# Altium schematic symbol library ICs_EFR.SchLib: 131 symbols (part 3 of 4)
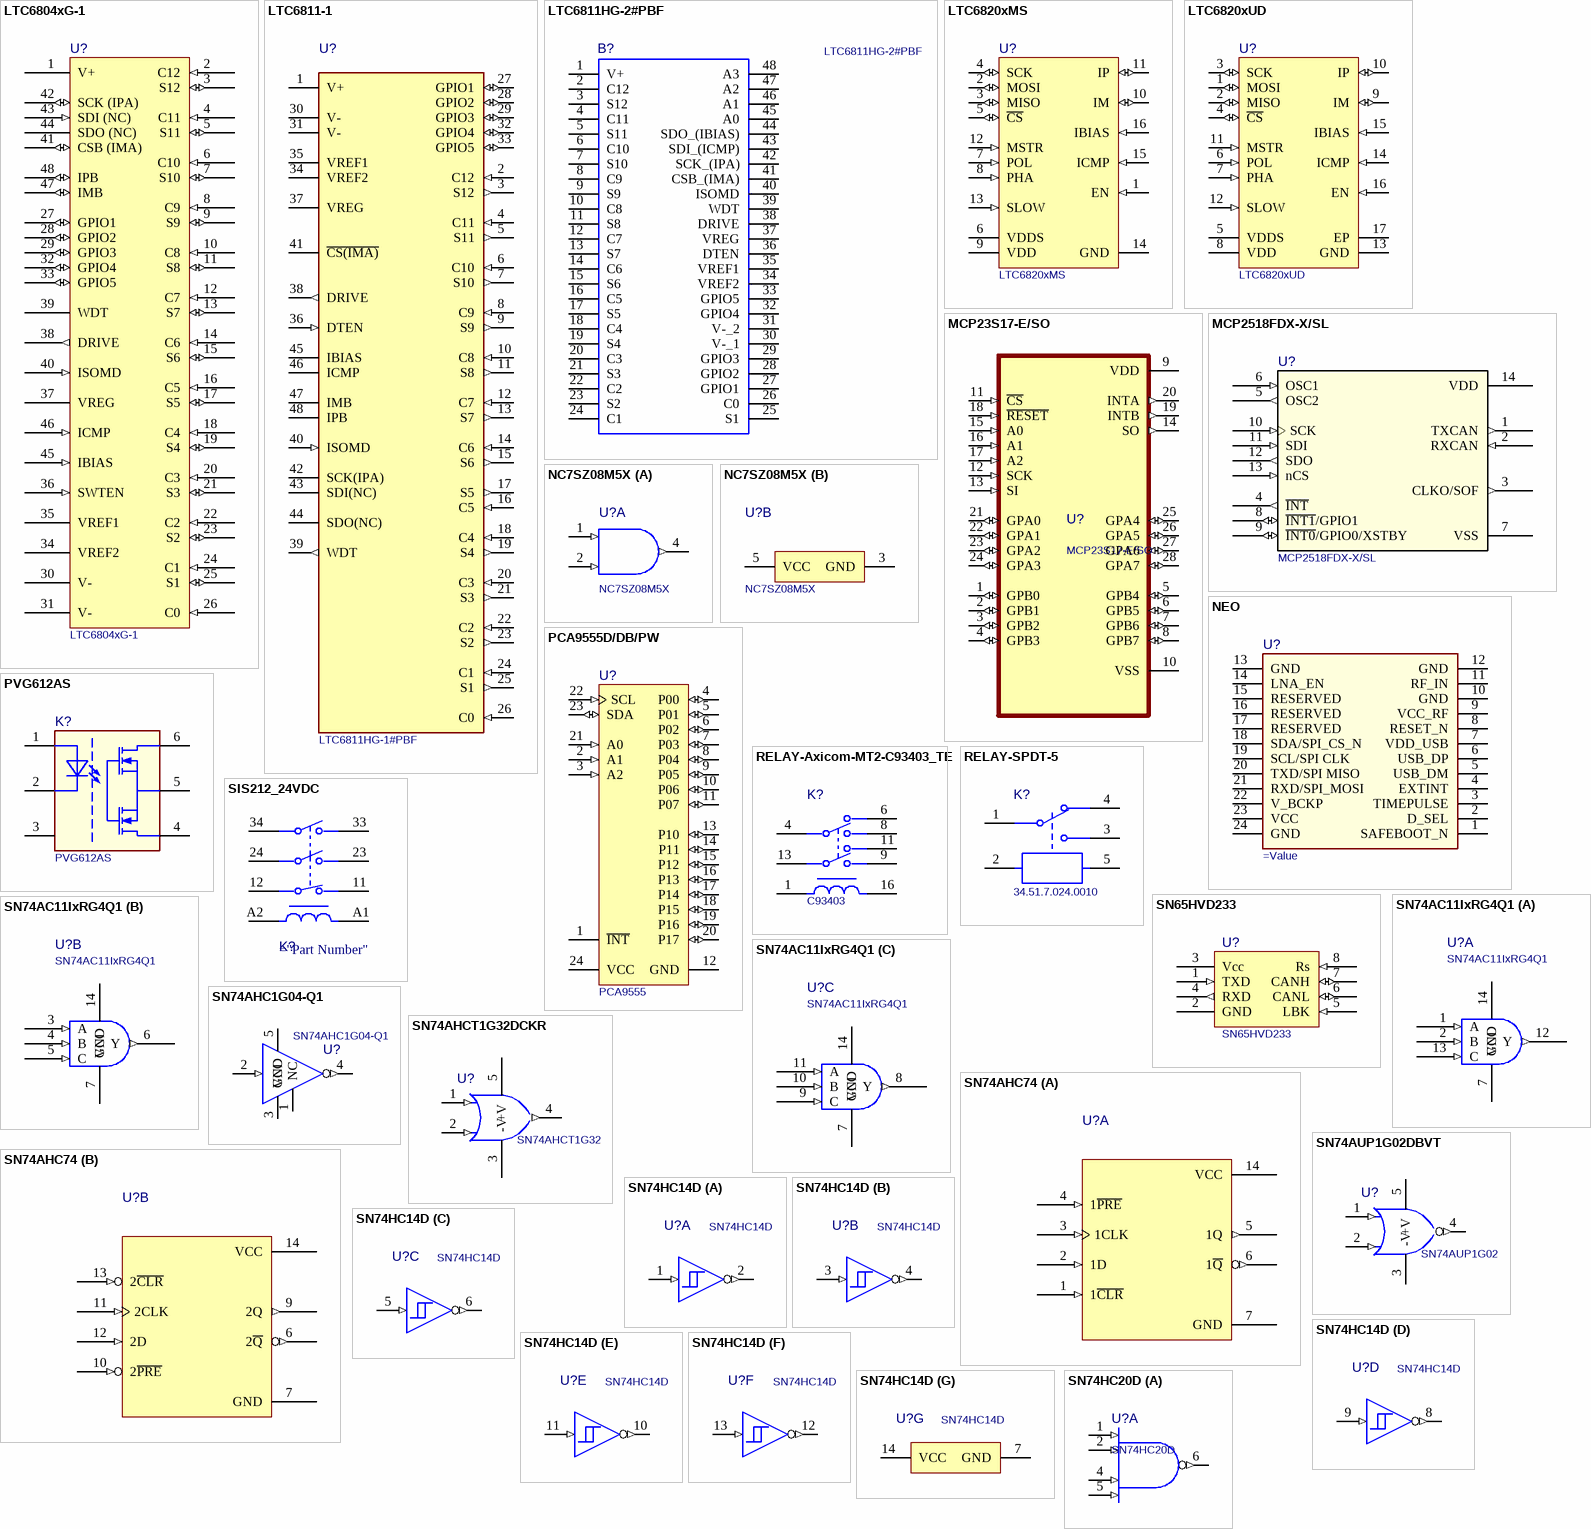
[diagram p10: symbols LTC6804xG-1 to SN74HC20D]

## LTC6820xMS
designator U?
IsoSPI Isolated Communication Interface, 2.7 to 5.5 V, -40 to 125 degC, 16-Pin MSOP (MS), Pb-Free; Manufacturer: Linear Technology; IO Supply Current: 1 uA Max.; IO Supply Voltage Range: 1.7 to 5.5 V; Receiver Input Resistance: 35 kOhm; VBIAS: 1.9 to 2.1 V; Supply Current, IDLE State: 2 uA; Mounting Technology: SMT; ComponentLink2URL: https://www.analog.com/media/en/technical-documentation/data-sheets/LTC6820.pdf; PackageVersion: Rev. A; PackageReference: MS-16; PackageDescription: 16-Pin Micro Small Outline Package, Body 4.039 x 3 mm, Pitch 0.5 mm; DatasheetVersion: Rev. A; Power Supply: 2.7 to 5.5 V; ComponentLink1Description: Manufacturer URL; Manufacturer P/N: LTC6820xMS; Temperature Range (degC): -40 to 125; ComponentLink1URL: https://www.analog.com/en/products/ltc6820.html; ComponentLink2Description: Datasheet; Supplier 1: Mouser; Supplier Part Number 1: 584-LTC6820IMS#PBF; Supplier 2: Mouser; Supplier Part Number 2: 584-LTC6820HMS#PBF
footprint MSOP16_M (LT-MS-16) (SOP, 16-Leads, Body 4.04x3.00mm, Pitch 0.50mm, IPC Low Density)
footprint MSOP16_N (LT-MS-16) (Footprint not found)
footprint MSOP16_L (LT-MS-16) (SOP, 16-Leads, Body 4.04x3.00mm, Pitch 0.50mm, IPC High Density)
pins: 1 EN (in) "Device Enable Input. If high, this pin forces the LTC6820 to stay enabled, overriding the internal IDLE mode function. If low, the LTC6820 will go into IDLE mode after the C\S\ pin has been high for 5.7ms (when MSTR pin is high) or after no signal on the IP/IM pins for 5.7ms (when MSTR pin is low). The LTC6820 will wake-up less than 8us after C\S\ falls (MSTR high) or after a signal is detected on IP/IM (MSTR low).", 2 MOSI (io) "SPI Master Out/Slave In Data. If connected on the master side of a SPI interface (MSTR pin high), this pin receives the data signal output from the master SPI controller. If connected on the slave side of the interface (MSTR pin low), this pin drives the data signal input to the slave SPI device. The output is open drain, so an external pull-up resistor to VDDS is required.", 3 MISO (io) "SPI Master Out/Slave In Data. If connected on themaster side of a SPI interface (MSTR pin high), this pin receives the data signal output from the master SPI controller. If connected on the slave side of the interface (MSTR pin low), this pin drives the data signal input to the slave SPI device. The output is open drain, so an external pull-up resistor to VDDS is required.", 4 SCK (io) "SPI Clock Input/Output. If connected on the master side of the interface (MSTR pin high), this pin receives the clock signal from the master SPI controller. This input should not be pulled above VDDS. If connected on the slave side of the interface (MSTR pin low), this pin outputs the clock signal to the slave device. The output driver is push-pull; no external pull-up resistor is needed.", 5 ~{CS} (io) "SPI Chip Select Input/Output. If connected on the masterside ofthe interface (MSTR pin high), this pin receivesthe chip select signal from the master SPI controller. This input should not be pulled above VDDS. Ifconnected on the slave side of the interface (MSTR pin low), this pin outputs the chip select signal to the slave device. The output driver is push-pull; no external pull-up resistor is needed.", 6 VDDS (power) "SPI Input/Output Power Supply Input.The output drivers for the SCK and C\S\ pins use the VDDS input as their positive power supply. The input threshold voltages of SCK, C\S\, MOSI, MISO and EN are determined by VDDS. May be tied to VDD or to a supply above or below VDD to level shift the SPI I/O. If separate from VDD, connect a bypass capacitor of at least 0.01 pF directly between VDDS amd GND", 7 POL (in) "SPI Clock Polarity Input. Tie to VDD or GND. See Operation section for details.", 8 PHA (in) "SPI Clock Phase Input. Tie to VDD orGND. See Operation section for details.", 9 VDD (power) "Device Power Supply Input. Connect a bypass capacitor of at least 0.01uF directly between VDD and GND.", 10 IM (io) "Isolated Interface Minus Input/Output.", 11 IP (io) "Isolated Interface Plus Input/Output.", 12 MSTR (in) "Serial Interface Master/Slave Selector Input. Tie this pin to VDD if the device is on the master side of the isolated interface. Tie this pin to GND if the device is on the slave side of the isolated interface", 13 SLOW (in) "Slow Interface Selection Input. For clock frequencies at or below 200kHz, or if slave devices cannot meet timing requirements, this pin should be tied to VDD. For clock frequencies above 200kHz, this pin should be tied to GND.", 14 GND (power) "Device Ground.", 15 ICMP (in) "Isolated Interface Comparator Voltage Threshold Set. Tie this pin to the resistor divider between IBIAS and GND to set the voltage threshold of the interface receiver comparators. The comparator thresholds are set to 1/2 the voltage on the ICMP pin.", 16 IBIAS (in) "Isolated Interface Current Bias. Tie IBIAS to GND through a resistor divider to set the interface output current level.When the device is enabled, this pin is approximately 2V. When transmitting pulses, the sink current on each of the IP and IM pins is set to 20 times the current sourced from pin IBIAS to GND. Limit the capacitance on the IBIAS pin to less than 50pF to maintain the stability of the feedback circuit regulating the IBIAS voltage."

## LTC6820xUD
designator U?
IsoSPI Isolated Communication Interface, 2.7 to 5.5 V, -40 to 125 degC, 16-Pin QFN (UD-16EPV-AA), Pb-Free; Manufacturer: Linear Technology; VBIAS: 1.9 to 2.1 V; IO Supply Current: 1 uA Max.; Receiver Input Resistance: 35 kOhm; IO Supply Voltage Range: 1.7 to 5.5 V; Supply Current, IDLE State: 2 uA; ComponentLink2Description: Datasheet; ComponentLink1URL: https://www.analog.com/en/products/ltc6820.html; Manufacturer P/N: LTC6820xUD; ComponentLink2URL: https://www.analog.com/media/en/technical-documentation/data-sheets/LTC6820.pdf; DatasheetVersion: Rev. A; ComponentLink1Description: Manufacturer; PackageReference: UD-16EPV-AA; PackageVersion: Rev. A; Mounting Technology: SMT; Temperature Range (degC): -40 to 125; PackageDescription: 16-Pin Quad Flat No-lead Package, Body 3 x 3 mm, Pitch 0.5 mm; Power Supply: 2.7 to 5.5 V; Supplier 1: Mouser; Supplier Part Number 1: 584-LTC6820IUD#PBF; Supplier 2: Mouser; Supplier Part Number 2: 584-LTC6820HUD#PBF
footprint QFN16_L (LT UD-16) (QFN, 16-Leads, Body 3.1x3.1mm, Pitch 0.5mm, Thermal Pad 1.65x1.65mm, IPC High Density)
footprint QFN16_N (LT UD-16) (QFN, 16-Leads, Body 3.1x3.1mm, Pitch 0.5mm, Thermal Pad 1.65x1.65mm, IPC Medium Density)
footprint QFN16_M (LT UD-16) (QFN, 16-Leads, Body 3.1x3.1mm, Pitch 0.5mm, Thermal Pad 1.65x1.65mm, IPC Low Density)
pins: 1 MOSI (io) "SPI Master Out/Slave In Data. If connected on the master side of a SPI interface (MSTR pin high), this pin receives the data signal output from the master SPI controller. If connected on the slave side of the interface (MSTR pin low), this pin drives the data signal input to the slave SPI device. The output is open drain, so an external pull-up resistor to VDDS is required.", 2 MISO (io) "SPI Master Out/Slave In Data. If connected on themaster side of a SPI interface (MSTR pin high), this pin receives the data signal output from the master SPI controller. If connected on the slave side of the interface (MSTR pin low), this pin drives the data signal input to the slave SPI device. The output is open drain, so an external pull-up resistor to VDDS is required.", 3 SCK (io) "SPI Clock Input/Output. If connected on the master side of the interface (MSTR pin high), this pin receives the clock signal from the master SPI controller. This input should not be pulled above VDDS. If connected on the slave side of the interface (MSTR pin low), this pin outputs the clock signal to the slave device. The output driver is push-pull; no external pull-up resistor is needed.", 4 ~{CS} (io) "SPI Chip Select Input/Output. If connected on the masterside ofthe interface (MSTR pin high), this pin receivesthe chip select signal from the master SPI controller. This input should not be pulled above VDDS. Ifconnected on the slave side of the interface (MSTR pin low), this pin outputs the chip select signal to the slave device. The output driver is push-pull; no external pull-up resistor is needed.", 5 VDDS (power) "SPI Input/Output Power Supply Input.The output drivers for the SCK and C\S\ pins use the VDDS input as their positive power supply. The input threshold voltages of SCK, C\S\, MOSI, MISO and EN are determined by VDDS. May be tied to VDD or to a supply above or below VDD to level shift the SPI I/O. If separate from VDD, connect a bypass capacitor of at least 0.01 pF directly between VDDS amd GND", 6 POL (in) "SPI Clock Polarity Input. Tie to VDD or GND. See Operation section for details.", 7 PHA (in) "SPI Clock Phase Input. Tie to VDD orGND. See Operation section for details.", 8 VDD (power) "Device Power Supply Input. Connect a bypass capacitor of at least 0.01uF directly between VDD and GND.", 9 IM (io) "Isolated Interface Minus Input/Output.", 10 IP (io) "Isolated Interface Plus Input/Output.", 11 MSTR (in) "Serial Interface Master/Slave Selector Input. Tie this pin to VDD if the device is on the master side of the isolated interface. Tie this pin to GND if the device is on the slave side of the isolated interface", 12 SLOW (in) "Slow Interface Selection Input. For clock frequencies at or below 200kHz, or if slave devices cannot meet timing requirements, this pin should be tied to VDD. For clock frequencies above 200kHz, this pin should be tied to GND.", 13 GND (power) "Device Ground.", 14 ICMP (in) "Isolated Interface Comparator Voltage Threshold Set. Tie this pin to the resistor divider between IBIAS and GND to set the voltage threshold of the interface receiver comparators. The comparator thresholds are set to 1/2 the voltage on the ICMP pin.", 15 IBIAS (in) "Isolated Interface Current Bias. Tie IBIAS to GND through a resistor divider to set the interface output current level.When the device is enabled, this pin is approximately 2V. When transmitting pulses, the sink current on each of the IP and IM pins is set to 20 times the current sourced from pin IBIAS to GND. Limit the capacitance on the IBIAS pin to less than 50pF to maintain the stability of the feedback circuit regulating the IBIAS voltage.", 16 EN (in) "Device Enable Input. If high, this pin forces the LTC6820 to stay enabled, overriding the internal IDLE mode function. If low, the LTC6820 will go into IDLE mode after the C\S\ pin has been high for 5.7ms (when MSTR pin is high) or after no signal on the IP/IM pins for 5.7ms (when MSTR pin is low). The LTC6820 will wake-up less than 8us after C\S\ falls (MSTR high) or after a signal is detected on IP/IM (MSTR low).", 17 EP (power) "Exposed pad may be left open or connected to device GND."

## MCP23S17-E/SO
designator U?
I/O Expander 16 SPI 10MHz 28-SOIC; Manufacturer: Microchip; Manufacturer P/N: MCP23S17-E/SO; Package: SOIC-28 Microchip; Mounting Technology: SMT; Supplier 1: Mouser; ComponentLink1Description: Website; ComponentLink1URL: https://www.microchip.com/en-us/product/mcp23s17; ComponentLink2Description: Datasheet; ComponentLink2URL: https://ww1.microchip.com/downloads/aemDocuments/documents/APID/ProductDocuments/DataSheets/MCP23017-Data-Sheet-DS20001952.pdf; ComponentLink3Description: SnapEDA; ComponentLink3URL: https://www.snapeda.com/parts/MCP23S17-E/SO/Microchip/view-part/48911/?ref=snap; Supplier Part Number 1: 579-MCP23S17-E/SO; Supplier 2: Mouser; Supplier Part Number 2: 579-MCP23S17T-E/SO
footprint SOIC127P1030X265-28N
pins: 1 GPB0 (io), 2 GPB1 (io), 3 GPB2 (io), 4 GPB3 (io), 5 GPB4 (io), 6 GPB5 (io), 7 GPB6 (io), 8 GPB7 (io), 9 VDD (power), 10 VSS (power), 11 ~{CS} (in), 12 SCK (in), 13 SI (in), 14 SO (out), 15 A0 (in), 16 A1 (in), 17 A2 (in), 18 ~{RESET} (in), 19 INTB (out), 20 INTA (out), 21 GPA0 (io), 22 GPA1 (io), 23 GPA2 (io), 24 GPA3 (io), 25 GPA4 (io), 26 GPA5 (io), 27 GPA6 (io), 28 GPA7 (io)

## MCP2518FDX-X/SL
designator U?
External CAN FD Controller with SPI Interface; Manufacturer P/N: MCP2518FDT-E/SL; Manufacturer: Microchip; Mounting Technology: SMT; Supplier 1: Mouser; ComponentLink1Description: Manufacturer; ComponentLink1URL: https://www.microchip.com/wwwproducts/en/MCP2518FD; ComponentLink2Description: Datasheet; ComponentLink2URL: https://ww1.microchip.com/downloads/en/DeviceDoc/External-CAN-FD-Controller-with-SPI-Interface-DS20006027B.pdf; Supplier Part Number 1: 579-MCP2518FDT-E/SL
footprint SOIC-14_L (D14) (SOIC, 14-Leads, Body 8.75x4mm, Pitch 1.27mm, IPC High Density)
footprint SOIC-14_N (D14) (SOIC, 14-Leads, Body 8.75x4mm, Pitch 1.27mm, IPC Medium Density)
footprint SOIC-14_M (D14) (SOIC, 14-Leads, Body 8.75x4mm, Pitch 1.27mm, IPC Low Density)
pins: 1 TXCAN (out) "Transmit output to CAN FD transceiver", 2 RXCAN (in) "Receive input from CAN FD transceiver", 3 CLKO/SOF (out) "Clock output/Start of Frame output", 4 ~{INT} (out) "Interrupt output (active low)", 5 OSC2 (out) "External oscillator output", 6 OSC1 (in) "External oscillator input", 7 VSS (power) "Ground", 8 ~{INT1}/GPIO1 (io) "RX Interrupt output (active low)/GPIO", 9 ~{INT0}/GPIO0/XSTBY (io) "TX Interrupt output (active low)/GPIO/Transceiver Standby output", 10 SCK (in) "SPI clock input", 11 SDI (in) "SPI data input", 12 SDO (out) "SPI data output", 13 nCS (in) "SPI chip select input", 14 VDD (power) "Positive Supply"

## NC7SZ08M5X
designator U?
TinyLogic(R) UHS 2-Input AND Gate, 1.65 to 5.5 V, -40 to 85 degC, 5-Pin SOT23, RoHS, Tape and Reel; Manufacturer P/N: NC7SZ08M5X_NL; Manufacturer: FairchildSemiconductor; Logic Family: NC7SV; Package Version: 08/2015; Low Level Output Current: 32mA; Number of Gates: 1Gate; Number of Input Lines: 2Input; Propagation Delay Time: 5.2ns; Unit Weight: 0.001058oz; High Level Output Current: -32mA; Supply Voltage - Min: 1.65V; Supply Voltage - Max: 5.5V; Number of Output Lines: 1Output; Maximum Operating Temperature: +85C; Package Reference: SOT23-5; Package URL: https://www.fairchildsemi.com/package-drawings/MA/MA05B.pdf; Package Description: 5-Pin Small Outline Transistor, Body 2.9 x 1.6 mm, Pitch 0.95 mm; Datasheet URL: https://www.fairchildsemi.com/datasheets/NC/NC7SZ08.pdf; Manufacturer URL: https://www.fairchildsemi.com/; Product Category: LogicGates; Series: TinyLogic; Mounting Technology: SMT; RoHS: True; Packaging: Reel; Mounting Style: SMD/SMT; Logic Type: 2-InputAND; Minimum Operating Temperature: -40C; <PCN>: http://www.mouser.com/PCN/3.26.10LTBDFairchild.pdf; Brand: FairchildSemiconductor; Product: Single-FunctionGate; Package / Case: SOT-23; Datasheet Version: Rev. 1.0.3, 09/2009; Logic Function: AND; ComponentLink1Description: Datasheet; ComponentLink1URL: https://www.onsemi.com/pub/Collateral/NC7SZ08-D.PDF
footprint SOT23-5_L (DBV5) (DBV)
footprint SOT23-5_N (DBV5)
footprint SOT23-5_M (DBV5)
part A pins: 1 A (in), 2 B (in), 4 Y (out)
part B pins: 3 GND (power), 5 VCC (power)

## NEO
designator U?
u-blox NEO GNSS module; Part Description: u-blox GNSS module; Manufacturer P/N: NEO-M8; Manufacturer: u-blox; ComponentLink1Description: Hersteller; ComponentLink1URL: https://www.u-blox.com/en/product/neo-m8-series; ComponentLink2Description: Datenblatt; ComponentLink2URL: https://www.u-blox.com/sites/default/files/NEO-M8-FW3_DataSheet_UBX-15031086.pdf; Mounting Technology: SMT
footprint NEO (u-blox NEO GNSS module)
pins: 1 SAFEBOOT_N, 2 D_SEL, 3 TIMEPULSE, 4 EXTINT, 5 USB_DM, 6 USB_DP, 7 VDD_USB, 8 RESET_N, 9 VCC_RF, 10 GND, 11 RF_IN, 12 GND, 13 GND, 14 LNA_EN, 15 RESERVED, 16 RESERVED, 17 RESERVED, 18 SDA/SPI_CS_N, 19 SCL/SPI CLK, 20 TXD/SPI MISO, 21 RXD/SPI_MOSI, 22 V_BCKP, 23 VCC, 24 GND

## PCA9555D/DB/PW
designator U?, comment PCA9555
Remote 16-Bit I2C and SMBus I/O Expander with Interrupt Output and Configuration Registers, 2.3 to 5.5 V, -40 to 85 degC, 24-pin SOIC (DW), Green (RoHS & no Sb/Br); Manufacturer: Texas Instruments; Manufacturer P/N: PCA9555DWR; No. of Outputs: 2; fSCLK(Max)(MHz): 400; 5V Tolerant I/O: Yes; VCC(Min)(V): 2.3; VCC(Max)(V): 5.5; # of I/Os: 16; SubFamily: I2C IO Expander; I2C Address: 0100 xxx; Eco-Plan: Green (RoHS & no Sb/Br); DatasheetVersion: SCPS131E; ComponentLink2Description: Package Specification; Mounting Technology: SMT; PackageVersion: revG, Jan-2011; Push-Pull I/O Type: Yes; Configuration Registers: Yes; PackageReference: DW0024A; Max Frequency(kHz): 400; ComponentLink1Description: Datasheet; ComponentLink2URL: http://www.ti.com/litv/pdf/mpds174a; Vcc range(V): 2.3 to 5.5; ComponentLink1URL: http://www.ti.com/general/docs/lit/getliterature.tsp?genericPartNumber=PCA9555&fileType=pdf; Interrupt Output: Yes; PackageDescription: 24-Pin Plastic Small Outline Integrated Circuit, 15.4 x 7.5 mm, Pitch 1.27 mm Pitch; Code_JEDEC: MS-013AD; ComponentLink3Description: Manufacturer; ComponentLink3URL: https://www.nxp.com/products/interfaces/ic-spi-serial-interface-devices/ic-general-purpose-i-o/16-bit-i2c-bus-and-smbus-i-o-port-with-interrupt:PCA9555
footprint SOIC-24_N (DW24) (SOIC, 24-Leads, Body 15.6x7.6mm, Pitch 1.27mm, IPC Medium Density)
footprint SOIC-24_L (DW24) (SOIC, 24-Leads, Body 15.6x7.6mm, Pitch 1.27mm, IPC High Density)
footprint SOIC-24_M (DW24) (SOIC, 24-Leads, Body 15.6x7.6mm, Pitch 1.27mm, IPC Low Density)
footprint TSSOP-24_N (PW24)
footprint TSSOP-24_M (PW24)
footprint TSSOP-24_L (PW24)
footprint SSOP-24_L (DBQ24)
footprint SSOP-24_L (DB24)
footprint SSOP-24_N (DBQ24)
footprint SSOP-24_M (DBQ24)
footprint SSOP-24_M (DB24)
footprint SSOP-24_N (DB24)
footprint TVSOP-24_N (DGV24)
footprint TVSOP-24_M (DGV24)
footprint TVSOP-24_L (DGV24)
pins: 1 ~{INT} (oc) "Interrupt output. Connect to VCC through a pullup resistor.", 2 A1 (in) "Address input 1. Connect directly to VCC or ground.", 3 A2 (in) "Address input 2. Connect directly to VCC or ground.", 4 P00 (io) "P-port input/output. Push-pull design structure.", 5 P01 (io) "P-port input/output. Push-pull design structure.", 6 P02 (io) "P-port input/output. Push-pull design structure.", 7 P03 (io) "P-port input/output. Push-pull design structure.", 8 P04 (io) "P-port input/output. Push-pull design structure.", 9 P05 (io) "P-port input/output. Push-pull design structure.", 10 P06 (io) "P-port input/output. Push-pull design structure.", 11 P07 (io) "P-port input/output. Push-pull design structure.", 12 GND (power) "Ground", 13 P10 (io) "P-port input/output. Push-pull design structure.", 14 P11 (io) "P-port input/output. Push-pull design structure.", 15 P12 (io) "P-port input/output. Push-pull design structure.", 16 P13 (io) "P-port input/output. Push-pull design structure.", 17 P14 (io) "P-port input/output. Push-pull design structure.", 18 P15 (io) "P-port input/output. Push-pull design structure.", 19 P16 (io) "P-port input/output. Push-pull design structure.", 20 P17 (io) "P-port input/output. Push-pull design structure.", 21 A0 (in) "Address input 0. Connect directly to VCC or ground.", 22 SCL (in) "Serial clock bus. Connect to VCC through a pullup resistor.", 23 SDA (io) "Serial data bus. Connect to VCC through a pullup resistor.", 24 VCC (power) "Supply voltage"

## PVG612AS
designator K?
HEXFET Power MOSFET Photovoltaic Relay, Single-Pole, Normally-Open; Manufacturer: Infineon Technologies; Manufacturer P/N: PVG612AS; PackageReference: SMT6; Mounting Technology: SMT; Supplier 1: Mouser; Supplier Part Number 1: 942-PVG612AS-TPBF; Supplier 2: Mouser; Supplier Part Number 2: 942-PVG612ASPBF
footprint SMT-6 (SOIC,2.54mm pitch;6 pin,6.35mm W X 8.38mm L X 4.43mm H body)
pins: 1 A "Anode", 2 C "Cathode", 3 NC "Not Connected", 4 D2 "Drain 2", 5 S "Source", 6 D1 "Drain 1"

## RELAY-Axicom-MT2-C93403_TE
designator K?, comment C93403
Electromechanical Relay DPDT 2A 24VDC 3.872KOhm THT; Manufacturer P/N: 1-1462000-3; Manufacturer: TE Connectivity; Number Of Contacts: 2; Coil Resistance: 3872Ω; Coil Power: 150mW; Coil Voltage: 24V; Coil Type: Non-Latching; Standoff Height: 0.2mm; Octopart: https://octopart.com/1-1462000-3-te+connectivity-40936454; Package: 1-1462000-3; Device Class L1: Electromechanical; Ambient Temperature Range Low: -55°C; ComponentLink2Description: Manufacturer; Digikey Description: RELAY TELECOM DPDT 2A 24VDC; Device Class L3: Signal Relays; Lead Free: Yes; Throw Configuration: DPDT; Category: Relay; Height (mm): 10.9; Ambient Temperature Range High: +85°C; Automotive: No; RoHS: TRUE; Device Class L2: Relays; Current Rating: 2A; ComponentLink2URL: https://www.te.com/usa-en/product-1-1462000-3.html?te_bu=Cor&te_type=other&te_campaign=oct_glo_cor-oct-global-oth-prtnr-fy19-oct-octo-buy-bom_sma-298_2&elqCampaignId=35216; Switching Current: 2A; ComponentLink3Description: Datasheet; ComponentLink3URL: https://www.te.com/commerce/DocumentDelivery/DDEController?Action=showdoc&DocId=Data+Sheet%7FMT2_RELAY%7F1019%7Fpdf%7FEnglish%7FENG_DS_MT2_RELAY_1019.pdf%7F1-1462000-3; Supplier 1: Mouser; Supplier 2: Digi-Key; Supplier Part Number 2: PB1126-ND; Supplier Part Number 1: 655-C93403; Mounting Technology: THT
footprint TE-MT2-Relay
pins: 1, 4, 6, 8, 9, 11, 13, 16

## RELAY-SPDT-5
designator K?, comment 34.51.7.024.0010
General Purpose Relay, 24 V, 6 A, -40 to 85 degC, 5-Pin THD, RoHS; Manufacturer: Finder; Maximum Switching Voltage AC: 400Vac; Maximum Switching Current AC: 6A; Coil Power: 170mW; Maximum Switching Power AC: 1.5kVA; Life: 60000(Electrical)cycles,10000000(DCMechanical)cycles; Contact Configuration: SPDT; Coil Voltage: 24Vdc; Coil Resistance: 3.35kΩ; Isolation Coil To Contact: 6kV; Dimensions: 28x5x15mm; Mounting Technology: PCB; Contact Material: SilverNickel; Datasheet Version: Dec-15; Height: 15mm; Terminal Type: PCBPin; Manufacturer URL: http://www.findernet.com/en-hk; Depth: 5mm; Package Reference: 34.51-5; Operating Temperature Range: -40→+85degC; Minimum Operating Temperature: -40degC; Datasheet URL: http://datasheet.octopart.com/34.51.7.024.0010-Finder-datasheet-61011079.pdf; Package Description: 5-Pin Through Hole Device, Body 28 x 5 mm; Maximum Operating Temperature: +85degC; Length: 28mm; ComponentLink1Description: Datasheet; ComponentLink1URL: https://gfinder.findernet.com/public/attachments/34/DE/S34DE.pdf; ComponentLink2Description: Manufacturer; ComponentLink2URL: https://www.findernet.com/de/germany/products/families/18/series/34; Manufacturer P/N: 34.51.7.024.0010
footprint Relay  34.51 ultra-slim
pins: 1, 2, 3, 4, 5

## SIS212_24VDC
designator K?  (value not drawn)
footprint ELESTA_SIS212_24VDC_0
pins: 11, 12, 23, 24, 33, 34, A1, A2

## SN65HVD233
designator U?
3.3V CAN Transceiver with Loopback Mode; Manufacturer: Texas Instruments; Manufacturer P/N: SN65HVD233D; ComponentLink1Description: Datasheet; ComponentLink1URL: http://www.ti.com/lit/ds/symlink/sn65hvd233.pdf; ComponentLink2Description: Manufacturer; ComponentLink2URL: http://www.ti.com/product/SN65HVD233; Resistance: *; Value: *; Tolerance: *; Type: Interface; Capacitance: *; Current (A): *; Power (W): *; Voltage (V): *; Mounting Technology: SMT
footprint SOIC-08
pins: 1 TXD (in) "CAN transmit data input (LOW for dominantand HIGH for recessive bus states), also called TXD, driver input", 2 GND (power), 3 Vcc (power) "Transceiver 3.3-V supply voltage", 4 RXD (out), 5 LBK (in) "Loopbackmode input pin", 6 CANL (io) "Low-level CAN bus line", 7 CANH (io) "High-level CAN bus line", 8 Rs (in) "Mode select pin: strong pull down to GND = high-speed mode, strong pull up to VCC = low-power mode, 10-kΩ to 100-kΩ pull down to GND = slope control mode"

## SN74AC11IxRG4Q1
designator U?
Automotive Catalog Triple 3-Input Positive-AND Gates; Manufacturer: Texas Instruments; Part_Number: SN74AC11-Q1; Manufacturer P/N: SN74AC11IPWRG4Q1; INDUSTRY_STD_PKG_TYPE: TSSOP; Pin Number: 14; FAMILY_NAME: AND GATE; Package: TSSOP; Copyright: Copyright (C) 2018 Accelerated Designs. All rights reserved; RefDes: RefDes; Type: DEV; ComponentLink1Description: Datasheet; ComponentLink1URL: https://www.ti.com/lit/gpn/SN74AC11-Q1; ComponentLink2Description: Manufacturer; ComponentLink2URL: https://www.ti.com/product/SN74AC11-Q1; Mounting Technology: SMT
footprint TSSOP-14_L (PW14) (TSSOP, 14-Leads, Body 5.10x4.5mm, Pitch 0.65mm, IPC High Density)
footprint TSSOP-14_N (PW14) (TSSOP, 14-Leads, Body 5.10x4.5mm, Pitch 0.65mm, IPC Medium Density)
footprint TSSOP-14_M (PW14) (TSSOP, 14-Leads, Body 5.10x4.5mm, Pitch 0.65mm, IPC Low Density)
footprint SOIC-14_L (D14) (SOIC, 14-Leads, Body 8.75x4mm, Pitch 1.27mm, IPC High Density)
footprint SOIC-14_N (D14) (SOIC, 14-Leads, Body 8.75x4mm, Pitch 1.27mm, IPC Medium Density)
footprint SOIC-14_M (D14) (SOIC, 14-Leads, Body 8.75x4mm, Pitch 1.27mm, IPC Low Density)
part A pins: 1 A (in), 2 B (in), 7 GND (power), 12 Y (out), 13 C (in), 14 VCC (power)
part B pins: 3 A (in), 4 B (in), 5 C (in), 6 Y (out), 7 GND (power), 14 VCC (power)
part C pins: 7 GND (power), 8 Y (out), 9 C (in), 10 B (in), 11 A (in), 14 VCC (power)

## SN74AHC1G04-Q1
designator U?
Automotive Catalog Single Inverter Gate; Manufacturer: Texas Instruments; Output Drive (IOL/IOH)(Max)(mA): 32/-32; Schmitt Trigger: No; Logic: Inverting; Bits(#): 1; tpd @ Nom Voltage(Max)(ns): 11,6.5,5.5,5; Voltage(Nom)(V): 1.8,2.5,3.3,5; Output Type: Push-Pull; VCC(Min)(V): 1.65; ICC @ Nom Voltage(Max)(mA): 0.01; Input Type: CMOS; F @ Nom Voltage(Max)(Mhz): 150; VCC(Max)(V): 5.5; Sub-Family: Inverting Buffer/Driver; Technology Family: AHC; Rating: Automotive; PackageReference: *; Operating Temperature Range(C): -40 to 125,-40 to 85; Generic Part Number: SN74AHC1G04-Q1; 3-State Output: No; ComponentLink1Description: Datasheet; ComponentLink1URL: https://www.ti.com/lit/gpn/sn74ahc1g04-q1; ComponentLink2Description: Manufacturer; ComponentLink2URL: https://www.ti.com/product/SN74AHC1G04-Q1; Manufacturer P/N: SN74AHC1G04-Q1; Mounting Technology: SMT
footprint SC70-5_L (DCK5)
footprint SC70-5_M (DCK5)
footprint SC70-5_N (DCK5)
footprint SOT23-5_L (DBV5) (DBV)
footprint SOT23-5_N (DBV5)
footprint SOT23-5_M (DBV5)
pins: 1 NC, 2 A (in) "Input A", 3 GND, 4 Y (out) "Output Y", 5 VCC

## SN74AHC74
designator U?
Schmitt-Trigger Input Dual D-Type Positive-Edge- / Triggered Flip-Flops With Clear and Preset; Manufacturer P/N: SN74AHC74; Manufacturer: Texas Instruments; Value: *R; Tolerance: *%; Power (W): *; Current (A): *; Type: *; Voltage (V): *; Capacitance: *; Resistance: *R; ComponentLink1Description: Datasheet; ComponentLink1URL: https://www.ti.com/lit/gpn/sn74ahc74; ComponentLink2Description: Datasheet (Q1); ComponentLink2URL: https://www.ti.com/lit/gpn/sn74ahc74q-q1; ComponentLink3Description: Website; ComponentLink3URL: https://www.ti.com/product/SN74AHC74; ComponentLink4Description: Website (Q1); ComponentLink4URL: https://www.ti.com/product/SN74AHC74Q-Q1; Mounting Technology: SMT
footprint SOIC-14_L (D14) (SOIC, 14-Leads, Body 8.75x4mm, Pitch 1.27mm, IPC High Density)
footprint SOIC-14_N (D14) (SOIC, 14-Leads, Body 8.75x4mm, Pitch 1.27mm, IPC Medium Density)
footprint SOIC-14_M (D14) (SOIC, 14-Leads, Body 8.75x4mm, Pitch 1.27mm, IPC Low Density)
footprint SOP-14_L (NS14)
footprint SOP-14_N (NS14)
footprint SOP-14_M (NS14)
footprint PDIP-14 (N14)
footprint SSOP-14_L (DB14)
footprint SSOP-14_N (DB14)
footprint SSOP-14_M (DB14)
footprint TSSOP-14_L (PW14) (TSSOP, 14-Leads, Body 5.10x4.5mm, Pitch 0.65mm, IPC High Density)
footprint TSSOP-14_N (PW14) (TSSOP, 14-Leads, Body 5.10x4.5mm, Pitch 0.65mm, IPC Medium Density)
footprint TSSOP-14_M (PW14) (TSSOP, 14-Leads, Body 5.10x4.5mm, Pitch 0.65mm, IPC Low Density)
footprint TVSOP-14_L (DGV14)
footprint TVSOP-14_N (DGV14)
footprint TVSOP-14_M (DGV14)
part A pins: 1 1~{CLR} (in) "Clear for channel 1, active low", 2 1D (in) "Data for channel 1", 3 1CLK (in) "Clock for channel 1, rising edge triggered", 4 1~{PRE} (in) "Preset for channel 1, active low", 5 1Q (out) "Output for channel 1", 6 1~{Q} (out) "Inverted output for channel 1", 7 GND (power) "Ground", 14 VCC (power) "Positive Supply"
part B pins: 6 2~{Q} (out) "Inverted output for channel 2", 7 GND (power) "Ground", 9 2Q (out) "Output for channel 2", 10 2~{PRE} (in) "Preset for channel 2, active low", 11 2CLK (in) "Clock for channel 2, rising edge triggered", 12 2D (in) "Data for channel 2", 13 2~{CLR} (in) "Clear for channel 2, active low", 14 VCC (power) "Positive Supply"

## SN74AHCT1G32DCKR
designator U?, comment SN74AHCT1G32
Single 2-Input Positive-OR Gate, DCK0005A, LARGE T&R; Manufacturer: Texas Instruments; Logic: True; Output Drive (IOL/IOH)(Max)(mA): 8/-8; VCC(Min)(V): 2; Input Type: CMOS; ICC @ Nom Voltage(Max)(mA): 0.01; tpd @ Nom Voltage(Max)(ns): 8; Bits(#): 1; Voltage(Nom)(V): 5; VCC(Max)(V): 5.5; Technology Family: AHCT; Rating: Catalog; Sub-Family: OR Gate; Gate Type: OR; F @ Nom Voltage(Max)(Mhz): 75; 3-State Output: No; PackageReference: DCK0005A; Output Type: CMOS; DatasheetVersion: SCLS320O; Operating Temperature Range(C): -40 to 125; Manufacturer P/N: SN74AHCT1G32; Schmitt Trigger: No; ComponentLink1Description: Manufacturer; ComponentLink1URL: https://www.ti.com/product/SN74AHCT1G32; ComponentLink2Description: Datenblatt; ComponentLink2URL: http://www.ti.com/lit/ds/symlink/sn74ahct1g32.pdf; Mounting Technology: SMT
footprint SOT23-5_N (DBV5)
footprint SOT23-5_L (DBV5) (DBV)
footprint SOT23-5_M (DBV5)
footprint SC70-5_L (DCK5)
footprint SC70-5_M (DCK5)
footprint SC70-5_N (DCK5)
footprint SOT-5X3-5_L (DRL5)
footprint SOT-5X3-5_M (DRL5)
footprint SOT-5X3-5_N (DRL5)
pins: 1 A (in) "Input A", 2 B (in) "Input B", 3 -V (power) "Ground Pin", 4 Y (out) "Output Y", 5 +V (power) "Power Pin"

## SN74AUP1G02DBVT
designator U?, comment SN74AUP1G02
Low-Power Single 2-Input Positive-NOR Gate, DBV0005A, SMALL T&R; Manufacturer: Texas Instruments; tpd @ Nom Voltage(Max)(ns): 34.6,21.1,14.4,11.2,7.8,6.4; 3-State Output: No; Output Drive (IOL/IOH)(Max)(mA): 20/-20; F @ Nom Voltage(Max)(Mhz): 100; Gate Type: NOR; Output Type: CMOS; ICC @ Nom Voltage(Max)(mA): 0.0009; Technology Family: AUP; VCC(Min)(V): 0.8; Voltage(Nom)(V): 0.8,1.2,1.5,1.8,2.5,3.3; Bits(#): 1; VCC(Max)(V): 3.6; Rating: Catalog; Logic: True; Manufacturer P/N: SN74AUP1G02; PackageReference: DBV0005A; Input Type: CMOS; Operating Temperature Range(C): -40 to 85; Sub-Family: NOR Gate; DatasheetVersion: SCES568H; Schmitt Trigger: No; ComponentLink1Description: Hersteller; ComponentLink1URL: https://eu.mouser.com/ProductDetail/Texas-Instruments/SN74AUP1G02DBVT?qs=iO7mgM19OaaDEIgF9iXRpA==; ComponentLink2Description: Datenblatt; ComponentLink2URL: http://www.ti.com/lit/ds/symlink/sn74aup1g02.pdf; Mounting Technology: SMT
footprint SOT23-5_L (DBV5) (DBV)
footprint SOT23-5_M (DBV5)
footprint SOT23-5_N (DBV5)
footprint SC70-5_M (DCK5)
footprint SC70-5_N (DCK5)
footprint SC70-5_L (DCK5)
footprint SOT-5X3-5_L (DRL5)
footprint SOT-5X3-5_N (DRL5)
footprint SOT-5X3-5_M (DRL5)
pins: 1 A (in) "Input A", 2 B (in) "Input B", 3 -V (power) "Ground Pin", 4 Y (out) "Output Y", 5 +V (power) "Power Pin"

## SN74HC14D
designator U?
Hex Schmitt-Trigger Inverters, D0014A, TUBE; Manufacturer: Texas Instruments; Input Type: CMOS; Rating: Catalog; Voltage(Nom)(V): 5; Schmitt Trigger: Yes; ICC @ Nom Voltage(Max)(mA): 0.02; tpd @ Nom Voltage(Max)(ns): 31; F @ Nom Voltage(Max)(Mhz): 20; Output Drive (IOL/IOH)(Max)(mA): -4/4; VCC(Max)(V): 6; Technology Family: HC; VCC(Min)(V): 2; Manufacturer P/N: SN74HC14; Operating Temperature Range(C): -40 to 85; PackageReference: D0014A; DatasheetVersion: SCLS085G; Code_JEDEC: MS-012; Output Type: CMOS; Bits(#): 6; ComponentLink1Description: Datasheet; ComponentLink1URL: http://www.ti.com/lit/ds/symlink/sn74hc14.pdf; ComponentLink2Description: Mouser-Link; ComponentLink2URL: https://www.mouser.de/ProductDetail/Texas-Instruments/SN74HC14D?qs=sGAEpiMZZMutVWjHE%2FYQwyQkZBn%2FF0sRNwEOpHHn7u4%3D; Mounting Technology: SMT
footprint SOIC-14_L (D14) (SOIC, 14-Leads, Body 8.75x4mm, Pitch 1.27mm, IPC High Density)
footprint SOIC-14_M (D14) (SOIC, 14-Leads, Body 8.75x4mm, Pitch 1.27mm, IPC Low Density)
footprint SOIC-14_N (D14) (SOIC, 14-Leads, Body 8.75x4mm, Pitch 1.27mm, IPC Medium Density)
part A pins: 1 1A (in) "Input 1A", 2 ~{1Y} (out) "Output 1Y"
part B pins: 3 2A (in) "Input 2A", 4 ~{2Y} (out) "Output 2Y"
part C pins: 5 3A (in) "Input 3A", 6 ~{3Y} (out) "Output 3Y"
part D pins: 8 ~{4Y} (out) "Output 4Y", 9 4A (in) "Input 4A"
part E pins: 10 ~{5Y} (out) "Output 5Y", 11 5A (in) "Input 5A"
part F pins: 12 ~{6Y} (out) "Output 6Y", 13 6A (in) "Input 6A"
part G pins: 7 GND (power) "Ground Pin", 14 VCC (power) "Power Pin"

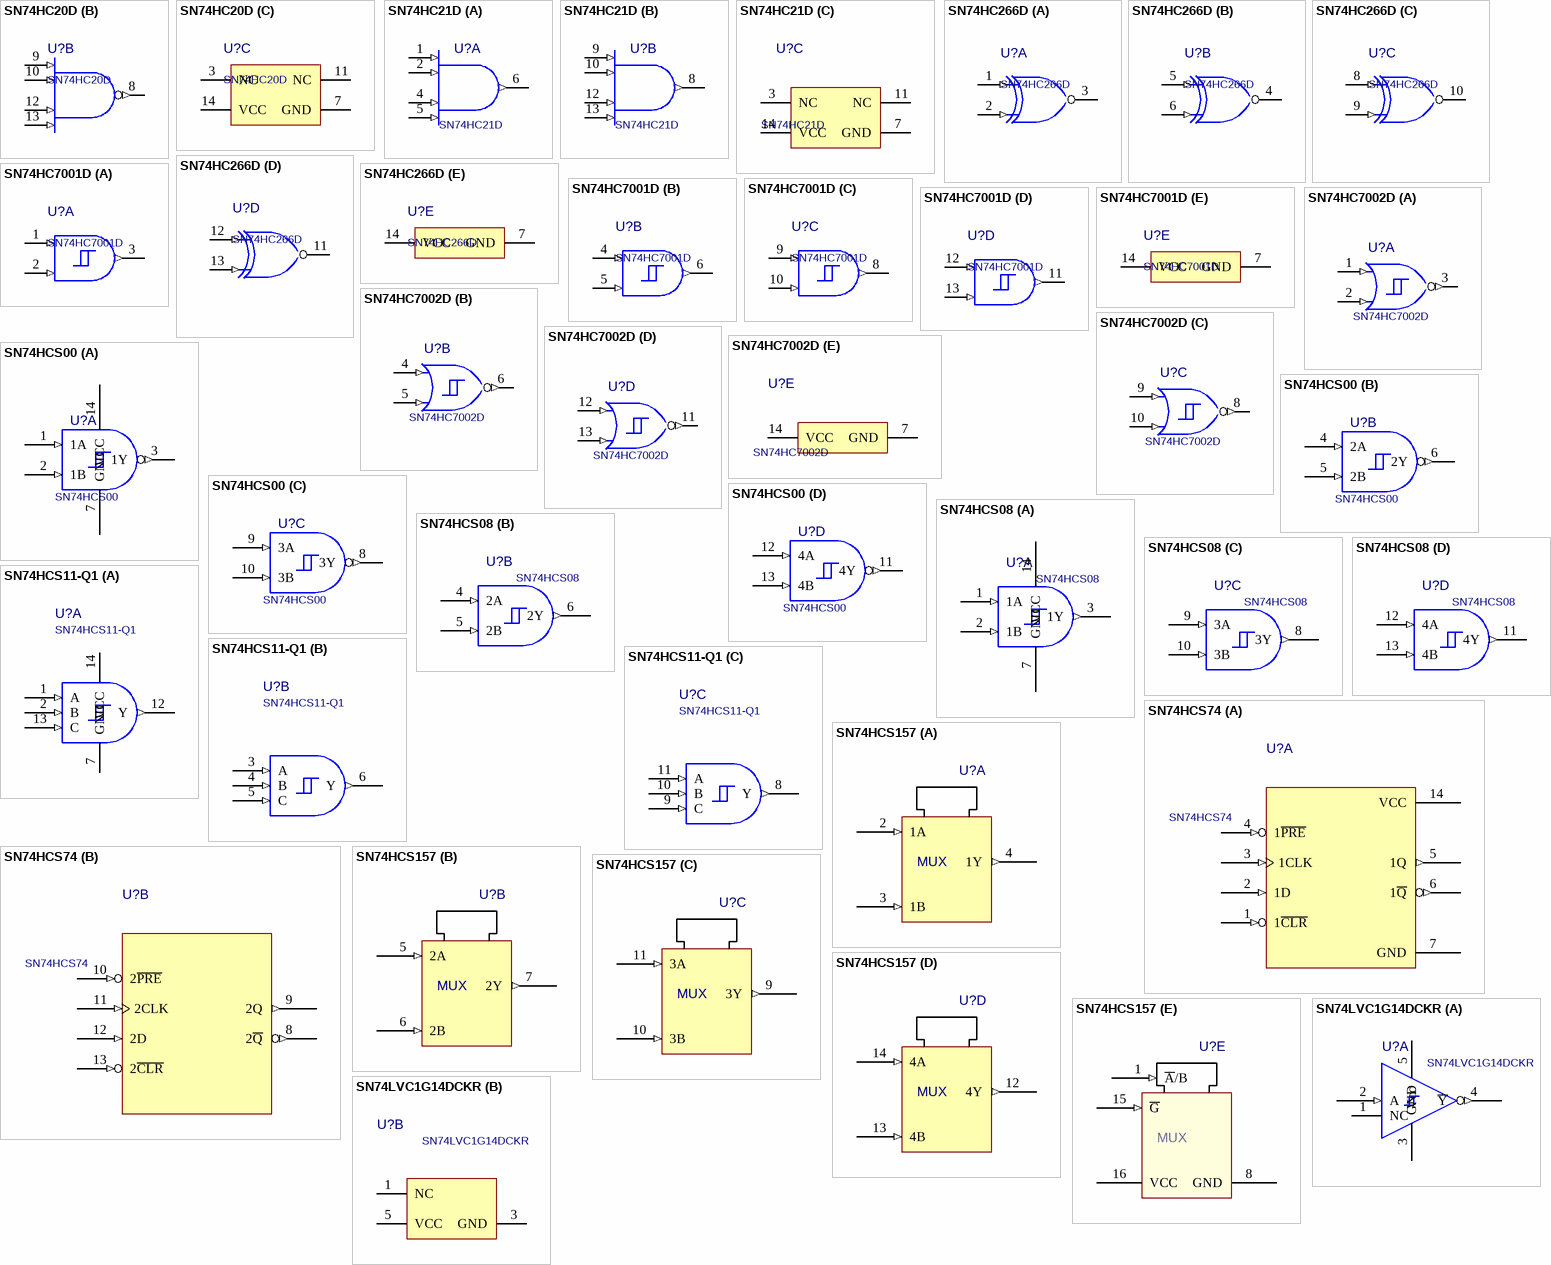
[diagram p6: symbols SN74HC20D to SN74LVC1G14DCKR]

## SN74HC20D
designator U?
Dual 4-Input Positive-NAND Gates, D0014A, TUBE; Manufacturer: Texas Instruments; Rating: Catalog; ICC @ Nom Voltage(Max)(mA): 0.02; Voltage(Nom)(V): 5; Technology Family: HC; VCC(Min)(V): 2; tpd @ Nom Voltage(Max)(ns): 28; Output Drive (IOL/IOH)(Max)(mA): 5.2/-5.2; F @ Nom Voltage(Max)(Mhz): 70; VCC(Max)(V): 6; Input Type: CMOS; Schmitt Trigger: No; Operating Temperature Range(C): -40 to 85; Code_JEDEC: MS-012; Manufacturer P/N: SN74HC20; DatasheetVersion: SCLS086F; Bits(#): 2; PackageReference: D0014A; Output Type: CMOS; ComponentLink1Description: Datasheet; ComponentLink1URL: http://www.ti.com/lit/ds/symlink/sn74hc20.pdf; ComponentLink2Description: Mouser-Link; ComponentLink2URL: https://www.mouser.de/ProductDetail/Texas-Instruments/SN74HC20D?qs=sGAEpiMZZMtMa9lbYwD6ZAv0bRAq9ZjL2ysGWySnGBA%3D; Mounting Technology: SMT
footprint SOIC-14_M (D14) (SOIC, 14-Leads, Body 8.75x4mm, Pitch 1.27mm, IPC Low Density)
footprint SOIC-14_N (D14) (SOIC, 14-Leads, Body 8.75x4mm, Pitch 1.27mm, IPC Medium Density)
footprint SOIC-14_L (D14) (SOIC, 14-Leads, Body 8.75x4mm, Pitch 1.27mm, IPC High Density)
part A pins: 1 1A (in), 2 1B (in), 4 1C (in), 5 1D (in), 6 1Y (out)
part B pins: 8 2Y (out), 9 2A (in), 10 2B (in), 12 2C (in), 13 2D (in)
part C pins: 3 NC, 7 GND (power), 11 NC, 14 VCC (power)

## SN74HC21D
designator U?
Dual 4-Input Positive-AND Gates, D0014A, TUBE; Manufacturer: Texas Instruments; VCC(Min)(V): 2; F @ Nom Voltage(Max)(Mhz): 70; Schmitt Trigger: No; tpd @ Nom Voltage(Max)(ns): 28; Rating: Catalog; Technology Family: HC; VCC(Max)(V): 6; Voltage(Nom)(V): 5; ICC @ Nom Voltage(Max)(mA): 0.02; Output Type: CMOS; Operating Temperature Range(C): -40 to 85; Bits(#): 2; Manufacturer P/N: SN74HC21D; PackageReference: D0014A; DatasheetVersion: SCLS087E; Input Type: CMOS; ComponentLink1Description: Datasheet; ComponentLink1URL: https://www.ti.com/lit/ds/symlink/sn74hc21.pdf; ComponentLink2Description: Manufacturer; ComponentLink2URL: https://www.ti.com/product/SN74HC21; Mounting Technology: SMT
footprint SOIC-14_L (D14) (SOIC, 14-Leads, Body 8.75x4mm, Pitch 1.27mm, IPC High Density)
footprint SOIC-14_N (D14) (SOIC, 14-Leads, Body 8.75x4mm, Pitch 1.27mm, IPC Medium Density)
footprint SOIC-14_M (D14) (SOIC, 14-Leads, Body 8.75x4mm, Pitch 1.27mm, IPC Low Density)
part A pins: 1 1A (in), 2 1B (in), 4 1C (in), 5 1D (in), 6 1Y (out)
part B pins: 8 2Y (out), 9 2A (in), 10 2B (in), 12 2C (in), 13 2D (in)
part C pins: 3 NC, 7 GND (power), 11 NC, 14 VCC (power)

## SN74HC266D
designator U?
Quadruple 2-Input Exclusive-NOR Gates With Open-Drain Outputs, D0014A, TUBE; Manufacturer: Texas Instruments; Output Type: CMOS; Schmitt Trigger: No; ICC @ Nom Voltage(Max)(mA): 0.02; Output Drive(mA): - /4; VCC(Max)(V): 6; Voltage(Nom)(V): 5; tpd @ Nom Voltage(Max)(ns): 26; Bits(#): 4; VCC(Min)(V): 2; Rating: Catalog; Output Drive (IOL/IOH)(Max)(mA): -4/4; F @ Nom Voltage(Max)(Mhz): 70; Technology Family: HC; PackageReference: D0014A; DatasheetVersion: SCLS135F; Input Type: CMOS; Manufacturer P/N: SN74HC266; Operating Temperature Range(C): -40 to 85; ComponentLink1Description: Datasheet; ComponentLink1URL: http://www.ti.com/lit/ds/symlink/sn74hc266.pdf; ComponentLink2Description: Mouser-Link; ComponentLink2URL: https://www.mouser.de/ProductDetail/Texas-Instruments/SN74HC266D?qs=sGAEpiMZZMtMa9lbYwD6ZFfNaxHsgUwacZVaLgRIEMk%3D; Mounting Technology: SMT
footprint SOIC-14_M (D14) (SOIC, 14-Leads, Body 8.75x4mm, Pitch 1.27mm, IPC Low Density)
footprint SOIC-14_N (D14) (SOIC, 14-Leads, Body 8.75x4mm, Pitch 1.27mm, IPC Medium Density)
footprint SOIC-14_L (D14) (SOIC, 14-Leads, Body 8.75x4mm, Pitch 1.27mm, IPC High Density)
part A pins: 1 1A (in), 2 1B (in), 3 1Y (oc)
part B pins: 4 2Y (oc), 5 2A (in), 6 2B (in)
part C pins: 8 3A (in), 9 3B (in), 10 3Y (oc)
part D pins: 11 4Y (oc), 12 4A (in), 13 4B (in)
part E pins: 7 GND (power), 14 VCC (power)

## SN74HC7001D
designator U?
Quadruple Positive-AND Gates With Schmitt-Trigger Inputs, D0014A, TUBE; Manufacturer: Texas Instruments; VCC(Max)(V): 6; VCC(Min)(V): 2; tpd @ Nom Voltage(Max)(ns): 33; Bits(#): 4; F @ Nom Voltage(Max)(Mhz): 70; Input Type: CMOS; Rating: Catalog; Schmitt Trigger: Yes; Voltage(Nom)(V): 5; ICC @ Nom Voltage(Max)(mA): 0.04; Technology Family: HC; Manufacturer P/N: SN74HC7001; PackageReference: D0014A; Output Type: CMOS; Operating Temperature Range(C): -40 to 85; DatasheetVersion: SCLS035E; ComponentLink1Description: Datasheet; ComponentLink1URL: http://www.ti.com/lit/ds/symlink/sn74hc7001.pdf; ComponentLink2Description: Mouser-Link; ComponentLink2URL: https://www.mouser.de/ProductDetail/Texas-Instruments/SN74HC7001D?qs=sGAEpiMZZMtMa9lbYwD6ZFpNokD2lDMqoYWyBgP0Lno%3D; Mounting Technology: SMT
footprint SOIC-14_M (D14) (SOIC, 14-Leads, Body 8.75x4mm, Pitch 1.27mm, IPC Low Density)
footprint SOIC-14_N (D14) (SOIC, 14-Leads, Body 8.75x4mm, Pitch 1.27mm, IPC Medium Density)
footprint SOIC-14_L (D14) (SOIC, 14-Leads, Body 8.75x4mm, Pitch 1.27mm, IPC High Density)
part A pins: 1 1A (in), 2 1B (in), 3 1Y (out)
part B pins: 4 2A (in), 5 2B (in), 6 2Y (out)
part C pins: 8 3Y (out), 9 3A (in), 10 3B (in)
part D pins: 11 4Y (out), 12 4A (in), 13 4B (in)
part E pins: 7 GND (power), 14 VCC (power)

## SN74HC7002D
designator U?
Quadruple Positive-NOR Gates With Schmitt-Trigger Inputs, D0014A, TUBE; Manufacturer: Texas Instruments; VCC(Min)(V): 2; Rating: Catalog; VCC(Max)(V): 6; ICC @ Nom Voltage(Max)(mA): 0.02; Output Type: CMOS; F @ Nom Voltage(Max)(Mhz): 70; tpd @ Nom Voltage(Max)(ns): 33; Output Drive (IOL/IOH)(Max)(mA): 4/-4; Bits(#): 4; Voltage(Nom)(V): 5; Operating Temperature Range(C): -40 to 85; PackageReference: D0014A; Code_JEDEC: MS-012; PackageVersion: http://www.ti.com/lit/ml/mpds177g/mpds177g.pdf; Manufacturer P/N: SN74HC7002; Input Type: CMOS; DatasheetVersion: SCLS033F; ComponentLink1Description: Datasheet; ComponentLink1URL: https://www.ti.com/lit/ds/symlink/sn74hc7002.pdf; ComponentLink2Description: Manufacturer; ComponentLink2URL: https://www.ti.com/product/SN74HC7002; Mounting Technology: SMT
footprint SOIC-14_L (D14) (SOIC, 14-Leads, Body 8.75x4mm, Pitch 1.27mm, IPC High Density)
footprint SOIC-14_N (D14) (SOIC, 14-Leads, Body 8.75x4mm, Pitch 1.27mm, IPC Medium Density)
footprint SOIC-14_M (D14) (SOIC, 14-Leads, Body 8.75x4mm, Pitch 1.27mm, IPC Low Density)
part A pins: 1 1A (in), 2 1B (in), 3 1Y (out)
part B pins: 4 2A (in), 5 2B (in), 6 2Y (out)
part C pins: 8 3Y (out), 9 3A (in), 10 3B (in)
part D pins: 11 4Y (out), 12 4A (in), 13 4B (in)
part E pins: 7 GND (power), 14 VCC (power)

## SN74HCS00
designator U?
Quadruple 2-Input NAND Gates with Schmitt-Trigger Inputs; Manufacturer: Texas Instruments; Value: *R; Tolerance: *%; Power (W): *; Manufacturer P/N: SN74HCS00; Current (A): *; Type: *; Voltage (V): *; Capacitance: *; Resistance: *R; ComponentLink1Description: Datasheet; ComponentLink1URL: https://www.ti.com/lit/gpn/SN74HCS00; ComponentLink2Description: Datasheet (Q1); ComponentLink2URL: https://www.ti.com/lit/gpn/SN74HCS00-Q1; ComponentLink3Description: Website; ComponentLink3URL: https://www.ti.com/product/SN74HCS00; ComponentLink4Description: Website (Q1); ComponentLink4URL: https://www.ti.com/product/SN74HCS00-Q1; Mounting Technology: SMT
footprint SOIC-14_L (D14) (SOIC, 14-Leads, Body 8.75x4mm, Pitch 1.27mm, IPC High Density)
footprint SOIC-14_N (D14) (SOIC, 14-Leads, Body 8.75x4mm, Pitch 1.27mm, IPC Medium Density)
footprint SOIC-14_M (D14) (SOIC, 14-Leads, Body 8.75x4mm, Pitch 1.27mm, IPC Low Density)
footprint TSSOP-14_L (PW14) (TSSOP, 14-Leads, Body 5.10x4.5mm, Pitch 0.65mm, IPC High Density)
footprint TSSOP-14_N (PW14) (TSSOP, 14-Leads, Body 5.10x4.5mm, Pitch 0.65mm, IPC Medium Density)
footprint TSSOP-14_M (PW14) (TSSOP, 14-Leads, Body 5.10x4.5mm, Pitch 0.65mm, IPC Low Density)
part A pins: 1 1A (in) "Channel 1, Input A", 2 1B (in) "Channel 1, Input B", 3 1Y (out) "Channel 1, Output Y", 7 GND (power) "Ground", 14 VCC (power) "Positive Supply"
part B pins: 4 2A (in) "Channel 2, Input A", 5 2B (in) "Channel 2, Input B", 6 2Y (out) "Channel 2, Output Y"
part C pins: 8 3Y (out) "Channel 3, Output Y", 9 3A (in) "Channel 3, Input A", 10 3B (in) "Channel 3, Input B"
part D pins: 11 4Y (out) "Channel 4, Output Y", 12 4A (in) "Channel 4, Input A", 13 4B (in) "Channel 4, Input B"

## SN74HCS08
designator U?
Quadruple 2-Input AND Gates with Schmitt-Trigger Inputs; Manufacturer: Texas Instruments; Value: *R; Tolerance: *%; Power (W): *; Manufacturer P/N: SN74HCS08; Current (A): *; Type: *; Voltage (V): *; Capacitance: *; Resistance: *R; ComponentLink1Description: Datasheet; ComponentLink1URL: https://www.ti.com/lit/gpn/SN74HCS08; ComponentLink2Description: Datasheet (Q1); ComponentLink2URL: https://www.ti.com/lit/gpn/SN74HCS08-Q1; ComponentLink3Description: Website; ComponentLink3URL: https://www.ti.com/product/SN74HCS08; ComponentLink4Description: Website (Q1); ComponentLink4URL: https://www.ti.com/product/SN74HCS08-Q1; Mounting Technology: SMT
footprint SOIC-14_L (D14) (SOIC, 14-Leads, Body 8.75x4mm, Pitch 1.27mm, IPC High Density)
footprint SOIC-14_N (D14) (SOIC, 14-Leads, Body 8.75x4mm, Pitch 1.27mm, IPC Medium Density)
footprint SOIC-14_M (D14) (SOIC, 14-Leads, Body 8.75x4mm, Pitch 1.27mm, IPC Low Density)
footprint TSSOP-14_L (PW14) (TSSOP, 14-Leads, Body 5.10x4.5mm, Pitch 0.65mm, IPC High Density)
footprint TSSOP-14_N (PW14) (TSSOP, 14-Leads, Body 5.10x4.5mm, Pitch 0.65mm, IPC Medium Density)
footprint TSSOP-14_M (PW14) (TSSOP, 14-Leads, Body 5.10x4.5mm, Pitch 0.65mm, IPC Low Density)
part A pins: 1 1A (in) "Channel 1, Input A", 2 1B (in) "Channel 1, Input B", 3 1Y (out) "Channel 1, Output Y", 7 GND (power) "Ground", 14 VCC (power) "Positive Supply"
part B pins: 4 2A (in) "Channel 2, Input A", 5 2B (in) "Channel 2, Input B", 6 2Y (out) "Channel 2, Output Y"
part C pins: 8 3Y (out) "Channel 3, Output Y", 9 3A (in) "Channel 3, Input A", 10 3B (in) "Channel 3, Input B"
part D pins: 11 4Y (out) "Channel 4, Output Y", 12 4A (in) "Channel 4, Input A", 13 4B (in) "Channel 4, Input B"

## SN74HCS11-Q1
designator U?
Automotive Triple 3-Input AND Gates with Schmitt-Trigger Inputs; Manufacturer: Texas Instruments; Part_Number: SN74AC11-Q1; Manufacturer P/N: SN74AC11IPWRG4Q1; INDUSTRY_STD_PKG_TYPE: TSSOP; Pin Number: 14; FAMILY_NAME: AND GATE; Package: TSSOP; Copyright: Copyright (C) 2018 Accelerated Designs. All rights reserved; RefDes: RefDes; Type: DEV; ComponentLink1Description: Datasheet; ComponentLink1URL: https://www.ti.com/lit/gpn/SN74AC11-Q1; ComponentLink2Description: Manufacturer; ComponentLink2URL: https://www.ti.com/product/SN74AC11-Q1; Mounting Technology: SMT
footprint TSSOP-14_L (PW14) (TSSOP, 14-Leads, Body 5.10x4.5mm, Pitch 0.65mm, IPC High Density)
footprint TSSOP-14_N (PW14) (TSSOP, 14-Leads, Body 5.10x4.5mm, Pitch 0.65mm, IPC Medium Density)
footprint TSSOP-14_M (PW14) (TSSOP, 14-Leads, Body 5.10x4.5mm, Pitch 0.65mm, IPC Low Density)
footprint SOIC-14_L (D14) (SOIC, 14-Leads, Body 8.75x4mm, Pitch 1.27mm, IPC High Density)
footprint SOIC-14_N (D14) (SOIC, 14-Leads, Body 8.75x4mm, Pitch 1.27mm, IPC Medium Density)
footprint SOIC-14_M (D14) (SOIC, 14-Leads, Body 8.75x4mm, Pitch 1.27mm, IPC Low Density)
part A pins: 1 A (in), 2 B (in), 7 GND (power), 12 Y (out), 13 C (in), 14 VCC (power)
part B pins: 3 A (in), 4 B (in), 5 C (in), 6 Y (out)
part C pins: 8 Y (out), 9 C (in), 10 B (in), 11 A (in)

## SN74HCS74
designator U?
Schmitt-Trigger Input Dual D-Type Positive-Edge- / Triggered Flip-Flops With Clear and Preset; Manufacturer: Texas Instruments; Value: *R; Tolerance: *%; Power (W): *; Manufacturer P/N: SN74HCS74; Current (A): *; Type: *; Voltage (V): *; Capacitance: *; Resistance: *R; ComponentLink1Description: Datasheet; ComponentLink1URL: https://www.ti.com/lit/gpn/sn74hcs74; ComponentLink2Description: Datasheet (Q1); ComponentLink2URL: https://www.ti.com/lit/gpn/sn74hcs74-q1; ComponentLink3Description: Website; ComponentLink3URL: https://www.ti.com/product/SN74HCS74; ComponentLink4Description: Website (Q1); ComponentLink4URL: https://www.ti.com/product/SN74HCS74-Q1; Mounting Technology: SMT
footprint SOIC-14_L (D14) (SOIC, 14-Leads, Body 8.75x4mm, Pitch 1.27mm, IPC High Density)
footprint SOIC-14_N (D14) (SOIC, 14-Leads, Body 8.75x4mm, Pitch 1.27mm, IPC Medium Density)
footprint SOIC-14_M (D14) (SOIC, 14-Leads, Body 8.75x4mm, Pitch 1.27mm, IPC Low Density)
part A pins: 1 1~{CLR} (in) "Clear for channel 1, active low", 2 1D (in) "Data for channel 1", 3 1CLK (in) "Clock for channel 1, rising edge triggered", 4 1~{PRE} (in) "Preset for channel 1, active low", 5 1Q (out) "Output for channel 1", 6 1~{Q} (out) "Inverted output for channel 1", 7 GND (power) "Ground", 14 VCC (power) "Positive Supply"
part B pins: 8 2~{Q} (out) "Inverted output for channel 2", 9 2Q (out) "Output for channel 2", 10 2~{PRE} (in) "Preset for channel 2, active low", 11 2CLK (in) "Clock for channel 2, rising edge triggered", 12 2D (in) "Data for channel 2", 13 2~{CLR} (in) "Clear for channel 2, active low"

## SN74HCS157
designator U?
Automotive Quadruple 2-to-1 Multiplexer with Schmitt-Trigger Inputs; Manufacturer P/N: SN74HCS157; Manufacturer: Texas Instruments; Value: *R; Tolerance: *%; Power (W): *; Current (A): *; Type: Multiplexer; Voltage (V): *; Capacitance: *; Resistance: *R; Mounting Technology: SMT
footprint SOIC-16_L (D)
footprint SOIC-16_N (D)
footprint SOIC-16_M (D)
footprint TSSOP-16_L (PW)
footprint TSSOP-16_N (PW)
footprint TSSOP-16_M (PW)
part A pins: 2 1A (in) "Channel 1, data input A", 3 1B (in) "Channel 1, data input B", 4 1Y (out) "Channel 1, data output"
part B pins: 5 2A (in) "Channel 2, data input A", 6 2B (in) "Channel 2, data input B", 7 2Y (out) "Channel 2, data output"
part C pins: 9 3Y (out) "Channel 3, data output", 10 3B (in) "Channel 3, data input B", 11 3A (in) "Channel 3, data input A"
part D pins: 12 4Y (out) "Channel 4, data output", 13 4B (in) "Channel 4, data input B", 14 4A (in) "Channel 4, data input A"
part E pins: 1 ~{A}/B (in) "Address select", 8 GND (power) "Ground", 15 ~{G} (in) "Output strobe, active low", 16 VCC (power) "Positive supply"
part A text: MUX
part B text: MUX
part C text: MUX
part D text: MUX
part E text: MUX

## SN74LVC1G14DCKR
designator U?
Single Schmitt-Trigger Inverter, DCK0005A, LARGE T&R; Manufacturer: Texas Instruments; Output Drive (IOL/IOH)(Max)(mA): 32/-32; Schmitt Trigger: Yes; Logic: Inverting; Bits(#): 1; Rating: Catalog; tpd @ Nom Voltage(Max)(ns): 11,6.5,5.5,5; Voltage(Nom)(V): 1.8,2.5,3.3,5; Output Type: CMOS; VCC(Min)(V): 1.65; ICC @ Nom Voltage(Max)(mA): 0.01; Input Type: CMOS/TTL; F @ Nom Voltage(Max)(Mhz): 150; VCC(Max)(V): 5.5; Sub-Family: Inverting Buffer/Driver; 3-State Output: No; Technology Family: LVC; PackageReference: DCK0005A; Operating Temperature Range(C): -40 to 125,-40 to 85; Manufacturer P/N: SN74LVC1G14; DatasheetVersion: SCES218W; ComponentLink1Description: Datasheet; ComponentLink1URL: http://www.ti.com/lit/ds/symlink/sn74lvc1g14.pdf; ComponentLink2Description: Mouser-Link; ComponentLink2URL: https://www.mouser.de/ProductDetail/Texas-Instruments/SN74LVC1G14DCKR?qs=sGAEpiMZZMutVWjHE%2FYQw9XSWsf7N%2Fuyix5WwM7gkok%3D; Mounting Technology: SMT
footprint SC70-5_L (DCK5)
footprint SC70-5_M (DCK5)
footprint SC70-5_N (DCK5)
part A pins: 1 NC "No internal connection", 2 A (in) "Input A", 3 GND "Ground", 4 ~{Y} (out) "Output Y", 5 Vcc "Supply/Power Pin"
part B pins: 1 NC "Ground", 3 GND (power) "Ground Pin", 5 VCC (power) "Power Pin"

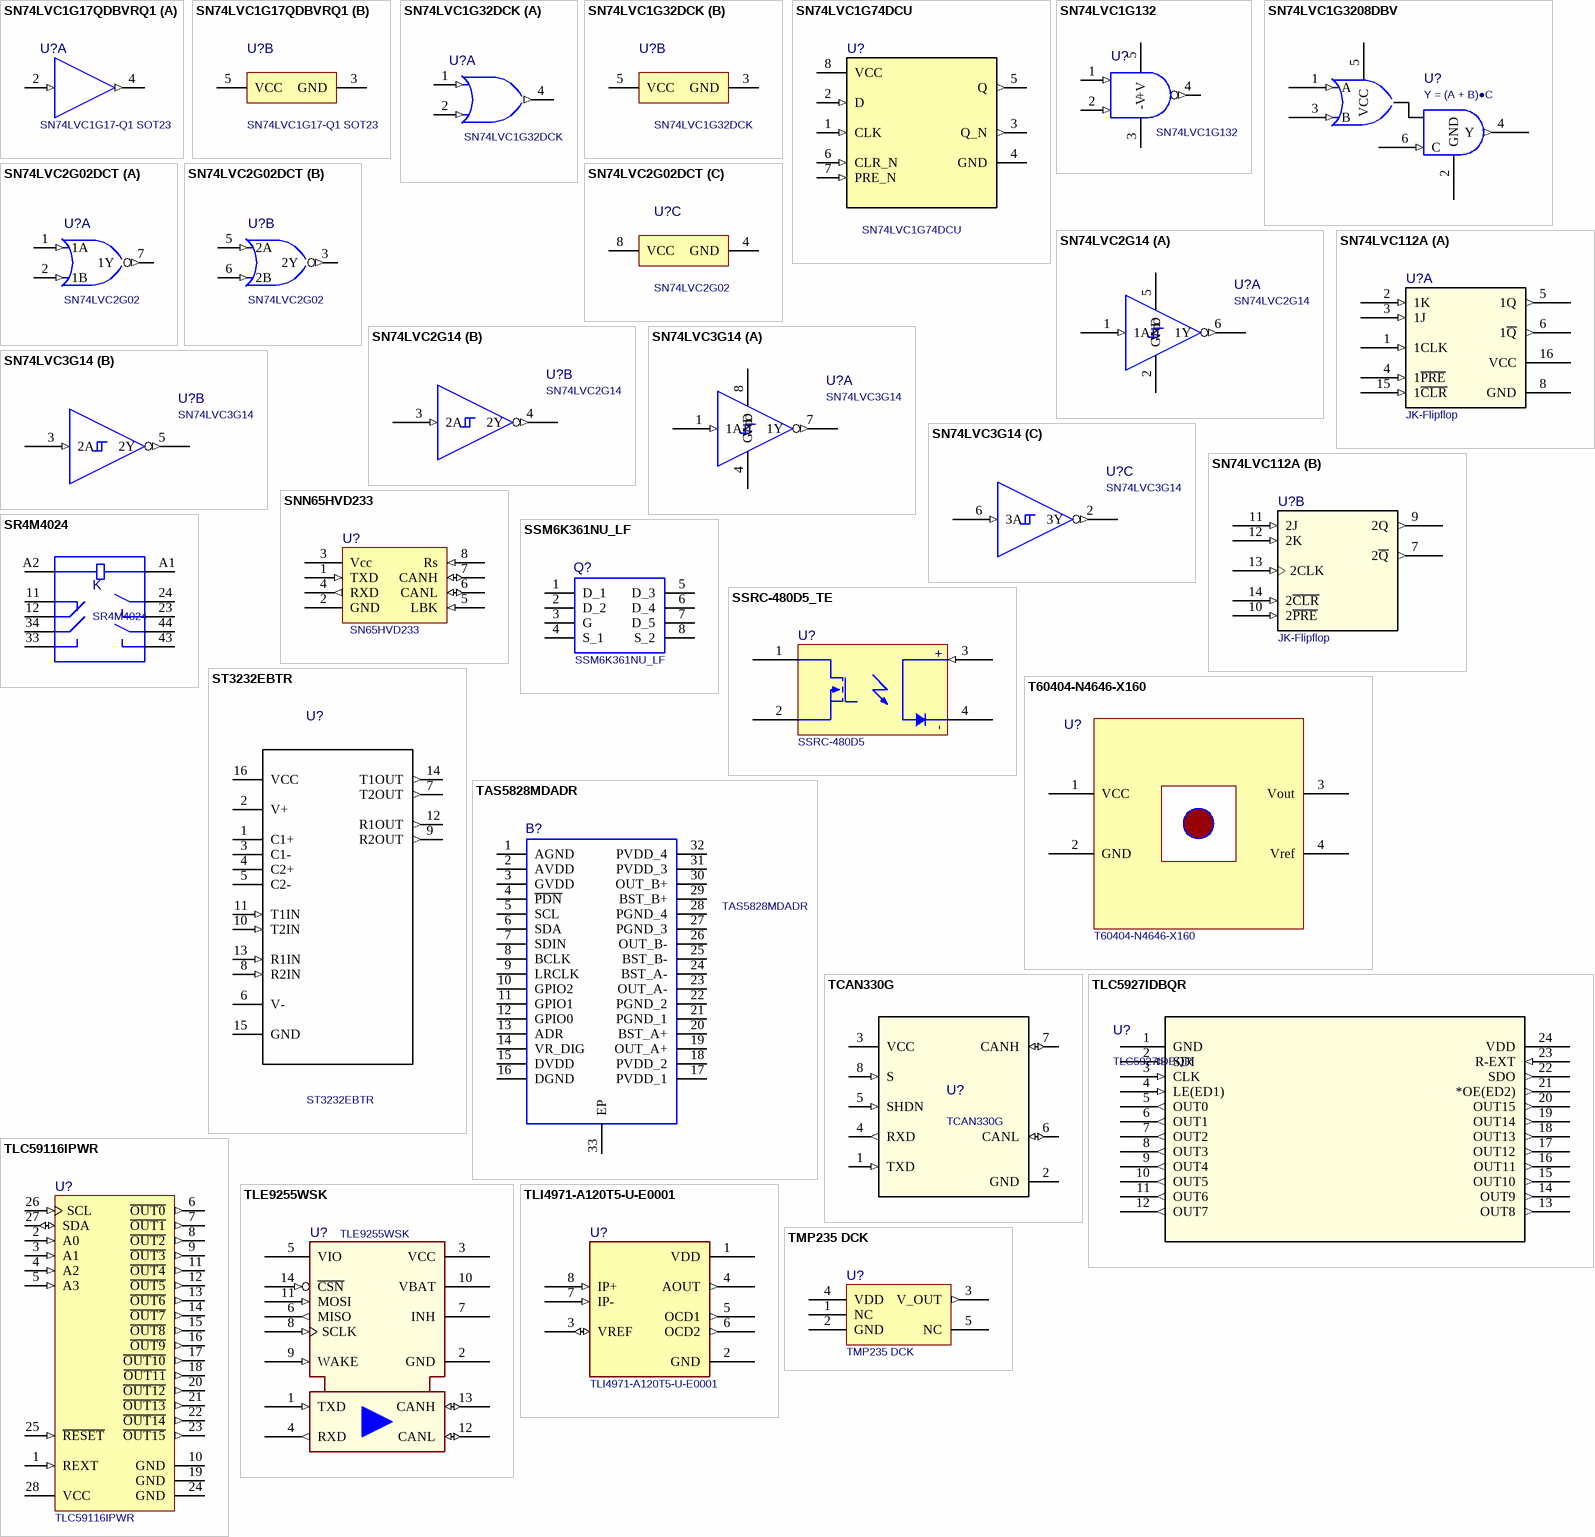
[diagram p7: symbols SN74LVC1G17QDBVRQ1 to TMP235 DCK]

## SN74LVC1G17QDBVRQ1
designator U?, comment SN74LVC1G17-Q1 SOT23
Automotive single 1.65-V to 6.5-V buffer with Schmitt-Trigger inputs 5-SOT-23 -40 to 125; Manufacturer: Texas Instruments; Manufacturer P/N: SN74LVC1G17QDBVRQ1; Pin Number: 5; RoHS: Yes; Category: Buffers, Drivers and Transceivers; ComponentLink6Description: Website; ComponentLink6URL: https://www.ti.com/product/de-de/SN74LVC1G17-Q1; ComponentLink7Description: Datasheet; ComponentLink7URL: https://www.ti.com/lit/ds/symlink/sn74lvc1g17-q1.pdf; Supplier 1: Mouser; Supplier Part Number 1: 595-74LVC1G17QDBVRQ1; Supplier 2: Digikey; Supplier Part Number 2: 296-32300-1-ND; Mounting Technology: SMT
footprint SOT23-5_M (DBV5)
part A pins: 2 A (in) "Input", 4 Y (out) "Output"
part B pins: 3 GND (power) "Ground", 5 VCC (power) "Power terminal"

## SN74LVC1G32DCK
designator U?
OR-Gate, 1ch, 2input, 1.65-V to 5.5-V 32-mA drive strength; Manufacturer: Texas Instruments; VCC(Min)(V): 1.65; Rating: Catalog; VCC(Max)(V): 5.5; ICC @ Nom Voltage(Max)(mA): 0.02; Output Type: CMOS; F @ Nom Voltage(Max)(Mhz): 70; tpd @ Nom Voltage(Max)(ns): 33; Output Drive (IOL/IOH)(Max)(mA): 32/-32; Voltage(Nom)(V): 5; Operating Temperature Range(C): -40 to 125; Manufacturer P/N: SN74LVC1G32DCK; Input Type: CMOS; ComponentLink1Description: Datasheet; ComponentLink1URL: https://www.ti.com/lit/gpn/sn74lvc1g32; ComponentLink2Description: Manufacturer; ComponentLink2URL: https://www.ti.com/product/SN74LVC1G32; Supplier 1: Mouser; Supplier Part Number 1: 595-SN74LVC1G32DCKR; Supplier 2: Mouser; Supplier Part Number 2: 595-SN74LVC1G32DCK3; Supplier 3: Mouser; Supplier Part Number 3: 595-74LVC1G32DCKRE4; Mounting Technology: SMT
footprint SC70-5_L (DCK5)
footprint SC70-5_N (DCK5)
footprint SC70-5_M (DCK5)
part A pins: 1 A (in), 2 B (in), 4 Y (out)
part B pins: 3 GND (power), 5 VCC (power)